# Altium schematic symbol library Filter,SAW,1.575GHz,SMD.Schlib: 1 symbol
Pins are listed as number, name and electrical type; pins without a type are passive.

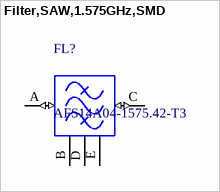
[diagram p0: symbol Filter,SAW,1.575GHz,SMD]

## Filter,SAW,1.575GHz,SMD
designator FL?, comment AFS14A04-1575.42-T3
1.575GHz Frequency General Purpose RF SAW Filter (Surface Acoustic Wave) 0.9dB 40MHz Bandwidth 5-SMD, No Lead
pins: A IN (io), B GND, C OUT (io), D GND, E GND